# Altium schematic symbol library RTC_Module_DS3231.SchLib: 1 symbol
Pins are listed as number, name and electrical type; pins without a type are passive.

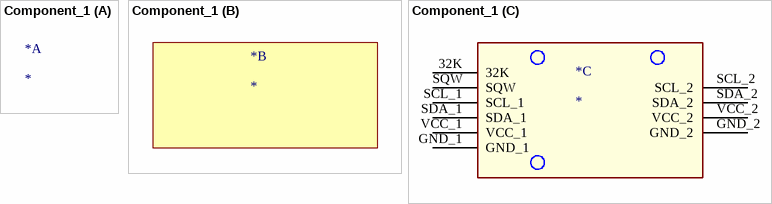
[diagram p0: symbol Component_1]

## Component_1
designator *
footprint PCBComponent_1
part C pins: 32K, GND_1, GND_2, SCL_1, SCL_2, SDA_1, SDA_2, SQW, VCC_1, VCC_2